# EAGLE library part LED2472G? (library radu-collected)
ST Microelectronics LED2472G: 24 channel LED driver with SPI
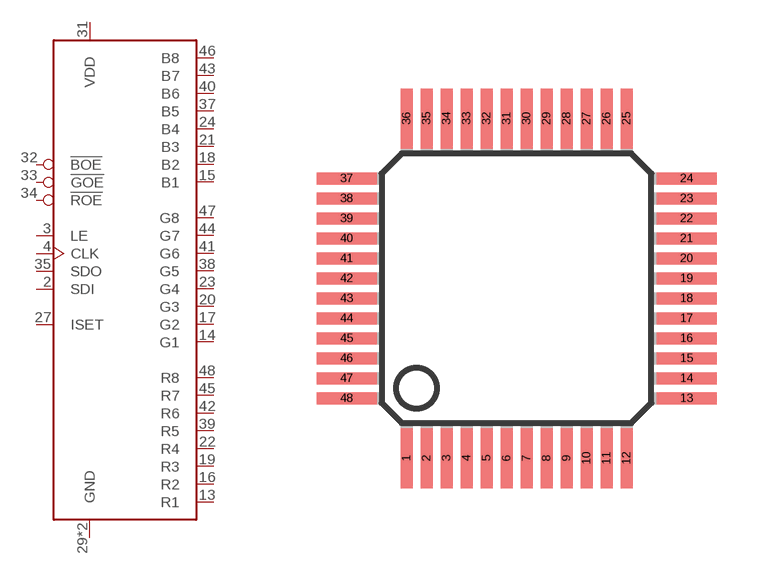
[diagram p11: symbol with the pads of TQFP48; footprint TQFP48]

Designator prefix U

## LED2472GBTR  [TQFP48]
2  SDI  in
3  LE  in
4  CLK  in
13  R1  pas
14  G1  pas
15  B1  pas
16  R2  pas
17  G2  pas
18  B2  pas
19  R3  pas
20  G3  pas
21  B3  pas
22  R4  pas
23  G4  pas
24  B4  pas
27  ISET  pas
29  GND  pwr
30  GND  pwr
31  VDD  pwr
32  !BOE  in
33  !GOE  in
34  !ROE  in
35  SDO  out
37  B5  pas
38  G5  pas
39  R5  pas
40  B6  pas
41  G6  pas
42  R6  pas
43  B7  pas
44  G7  pas
45  R7  pas
46  B8  pas
47  G8  pas
48  R8  pas

## Footprint TQFP48 (pad centres in mm)
Thin Quad Flat Pack
smd 0.3 x 1.5: 1 -2.75,-4.25; 2 -2.25,-4.25; 3 -1.75,-4.25; 4 -1.25,-4.25; 5 -0.75,-4.25; 6 -0.25,-4.25; 7 0.25,-4.25; 8 0.75,-4.25; 9 1.25,-4.25; 10 1.75,-4.25; 11 2.25,-4.25; 12 2.75,-4.25; 25 2.75,4.25; 26 2.25,4.25; 27 1.75,4.25; 28 1.25,4.25; 29 0.75,4.25; 30 0.25,4.25; 31 -0.25,4.25; 32 -0.75,4.25; 33 -1.25,4.25; 34 -1.75,4.25; 35 -2.25,4.25; 36 -2.75,4.25
smd 1.5 x 0.3: 13 4.25,-2.75; 14 4.25,-2.25; 15 4.25,-1.75; 16 4.25,-1.25; 17 4.25,-0.75; 18 4.25,-0.25; 19 4.25,0.25; 20 4.25,0.75; 21 4.25,1.25; 22 4.25,1.75; 23 4.25,2.25; 24 4.25,2.75; 37 -4.25,2.75; 38 -4.25,2.25; 39 -4.25,1.75; 40 -4.25,1.25; 41 -4.25,0.75; 42 -4.25,0.25; 43 -4.25,-0.25; 44 -4.25,-0.75; 45 -4.25,-1.25; 46 -4.25,-1.75; 47 -4.25,-2.25; 48 -4.25,-2.75